# EAGLE library part HONDABOSCH_12_PIN (library Souers)
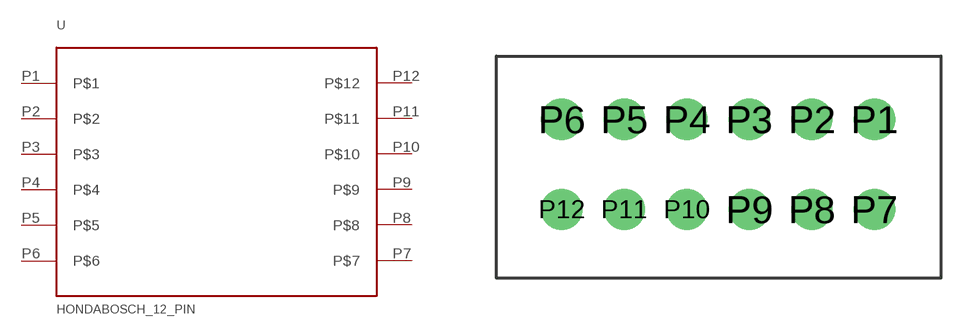
[diagram p4: symbol with the pads of HONDABOSCH_12_PIN; footprint HONDABOSCH_12_PIN]

Designator prefix -

## HONDABOSCH_12_PIN12_PIN  [HONDABOSCH_12_PIN]
P1  P$1
P2  P$2
P3  P$3
P4  P$4
P5  P$5
P6  P$6
P7  P$7
P8  P$8
P9  P$9
P10  P$10
P11  P$11
P12  P$12

## Footprint HONDABOSCH_12_PIN (pad centres in mm)
drill 1.1: P1 7.5,0; P2 5,0; P3 2.5,0; P4 0,0; P5 -2.5,0; P6 -5,0; P7 7.5,-3.6; P8 5,-3.6; P9 2.5,-3.6; P10 0,-3.6; P11 -2.5,-3.6; P12 -5,-3.6